# EAGLE library part BM20SPKA1NBC-0001AA (library eagle-library-engr-245-s22)
Bluetooth Modules (802.15.1) BT 4.1 Stereo Audio No-Shield/Antenna Source: Datasheet <https://componentsearchengine.com/Datasheets/1/BM20SPKA1NBC-0001AA.pdf>
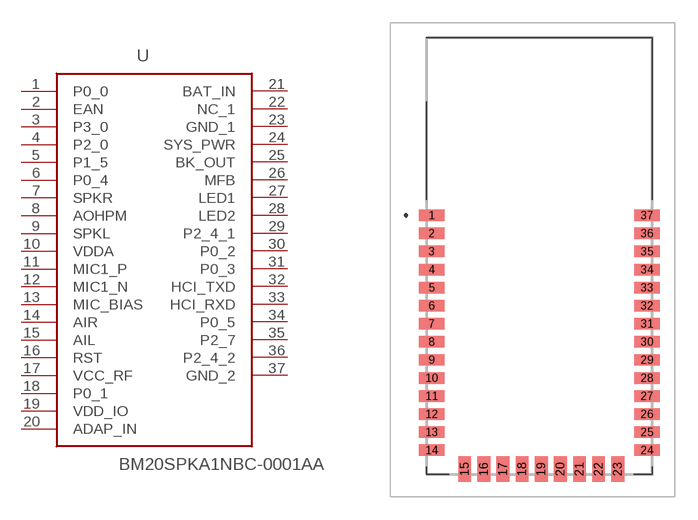
[diagram p11: symbol with the pads of BM20SPKA1NBC0001AA; footprint BM20SPKA1NBC0001AA]

Designator prefix U

## BM20SPKA1NBC-0001AA (DESCRIPTION: Bluetooth Modules (802.15.1) BT 4.1 Stereo Audio No-Shield/Antenna; HEIGHT: 2.5mm; MANUFACTURER_NAME: Microchip; MANUFACTURER_PART_NUMBER: BM20SPKA1NBC-0001AA; MOUSER_PART_NUMBER: 579-SPKA1NBC-0001AA; MOUSER_PRICE-STOCK: https://www.mouser.co.uk/ProductDetail/Microchip-Technology/BM20SPKA1NBC-0001AA?qs=uus7iwvxYD8HqvnWsd76VQ%3D%3D)  [BM20SPKA1NBC0001AA]
1  P0_0
2  EAN
3  P3_0
4  P2_0
5  P1_5
6  P0_4
7  SPKR
8  AOHPM
9  SPKL
10  VDDA
11  MIC1_P
12  MIC1_N
13  MIC_BIAS
14  AIR
15  AIL
16  RST
17  VCC_RF
18  P0_1
19  VDD_IO
20  ADAP_IN
21  BAT_IN
22  NC_1
23  GND_1
24  SYS_PWR
25  BK_OUT
26  MFB
27  LED1
28  LED2
29  P2_4_1
30  P0_2
31  P0_3
32  HCI_TXD
33  HCI_RXD
34  P0_5
35  P2_7
36  P2_4_2
37  GND_2

## Footprint BM20SPKA1NBC0001AA (pad centres in mm)
BM20SPKA1NBC-0001AA-2
smd 1.7 x 0.76: 1 -7.15,2.7; 2 -7.15,1.5; 3 -7.15,0.3; 4 -7.15,-0.9; 5 -7.15,-2.1; 6 -7.15,-3.3; 7 -7.15,-4.5; 8 -7.15,-5.7; 9 -7.15,-6.9; 10 -7.15,-8.1; 11 -7.15,-9.3; 12 -7.15,-10.5; 13 -7.15,-11.7; 14 -7.15,-12.9; 24 7.15,-12.9; 25 7.15,-11.7; 26 7.15,-10.5; 27 7.15,-9.3; 28 7.15,-8.1; 29 7.15,-6.9; 30 7.15,-5.7; 31 7.15,-4.5; 32 7.15,-3.3; 33 7.15,-2.1; 34 7.15,-0.9; 35 7.15,0.3; 36 7.15,1.5; 37 7.15,2.7
smd 0.85 x 1.7: 15 -4.96,-14.15; 16 -3.69,-14.15; 17 -2.42,-14.15; 18 -1.15,-14.15; 19 0.12,-14.15; 20 1.39,-14.15; 21 2.66,-14.15; 22 3.93,-14.15; 23 5.2,-14.15